# EAGLE library part TEENSY_LC (library TeensyLC)
Teensy LC footprint.
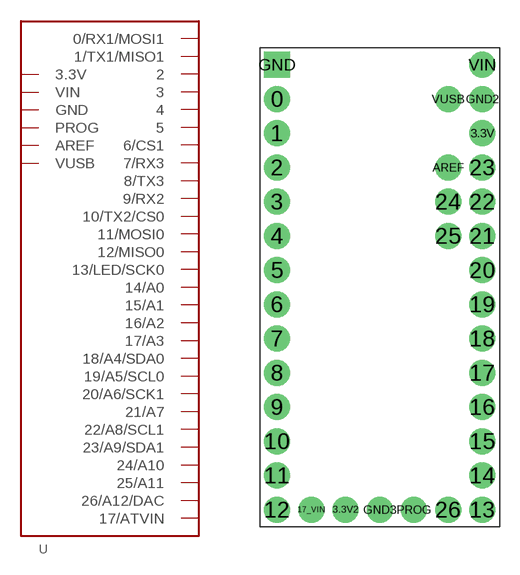
[diagram p0: symbol with the pads of TEENSY_LC; footprint TEENSY_LC]

Designator prefix -

## TEENSY_LC  [TEENSY_LC]
0  0/RX1/MOSI1
1  1/TX1/MISO1
2  2
3  3
3.3V  3.3V
3.3V2  3.3V
4  4
5  5
6  6/CS1
7  7/RX3
8  8/TX3
9  9/RX2
10  10/TX2/CS0
11  11/MOSI0
12  12/MISO0
13  13/LED/SCK0
14  14/A0
15  15/A1
16  16/A2
17  17/A3
17_VIN  17/ATVIN
18  18/A4/SDA0
19  19/A5/SCL0
20  20/A6/SCK1
21  21/A7
22  22/A8/SCL1
23  23/A9/SDA1
24  24/A10
25  25/A11
26  26/A12/DAC
AREF  AREF
GND  GND
GND2  GND
GND3  GND
PROG  PROG
VIN  VIN
VUSB  VUSB

## Footprint TEENSY_LC (pad centres in mm)
drill 1.1 pad 1.93: 0 -7.62,13.97; 1 -7.62,11.43; 2 -7.62,8.89; 3 -7.62,6.35; 3.3V 7.62,11.43; 3.3V2 -2.54,-16.51; 4 -7.62,3.81; 5 -7.62,1.27; 6 -7.62,-1.27; 7 -7.62,-3.81; 8 -7.62,-6.35; 9 -7.62,-8.89; 10 -7.62,-11.43; 11 -7.62,-13.97; 12 -7.62,-16.51; 13 7.62,-16.51; 14 7.62,-13.97; 15 7.62,-11.43; 16 7.62,-8.89; 17 7.62,-6.35; 17_VIN -5.08,-16.51; 18 7.62,-3.81; 19 7.62,-1.27; 20 7.62,1.27; 21 7.62,3.81; 22 7.62,6.35; 23 7.62,8.89; 24 5.08,6.35; 25 5.08,3.81; 26 5.08,-16.51; AREF 5.08,8.89; GND2 7.62,13.97; GND3 0,-16.51; PROG 2.54,-16.51; VIN 7.62,16.51; VUSB 5.08,13.97
drill 1.1 pad 1.93 square: GND -7.62,16.51